# Altium schematic symbol library 1.4 - 继电器-变压器.SchLib: 40 symbols
Pins are listed as number, name and electrical type; pins without a type are passive.

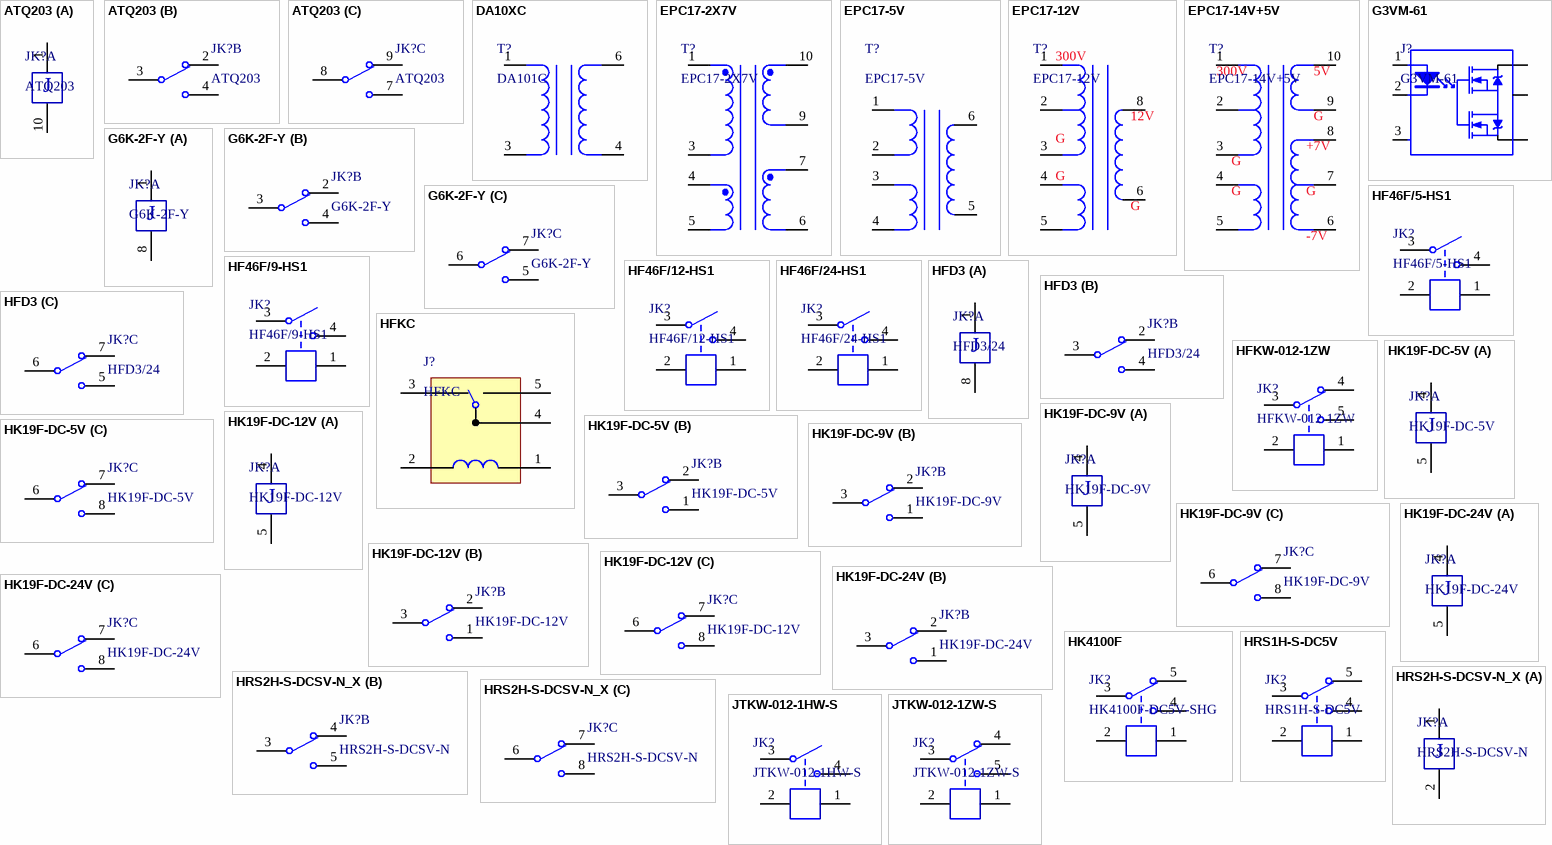
[diagram p0: symbols ATQ203 to JTKW-012-1ZW-S]

## ATQ203
designator JK?
12V两组转换; BOM名称: 12V两组继电器; 联系卖家 免费查找封装: 封装库来自淘宝卖家ID：黄晶宝石
footprint ATQ203 (双刀双投)
part A pins: 1, 10
part B pins: 2, 3, 4
part C pins: 7, 8, 9
part A text: J

## DA10XC
designator T?, comment DA101C
数字隔离变压器; 联系卖家 免费查找封装: 封装库来自淘宝卖家ID：黄晶宝石; BOM名称: 数字隔离变压器
footprint DA10XC (9mm*9.52mm*6.35mm(长*宽*高))
footprint DA10XMC (9mm*9.52mm*6.35mm(长*宽*高))
pins: 1, 3, 4, 6

## EPC17-2X7V
designator T?
2X7V 高频变压器; 联系卖家 免费查找封装: 封装库来自淘宝卖家ID：黄晶宝石; BOM名称: 2X7V 高频变压器
footprint EPC17-W-5+5 (磁芯17mm，高10mm，脚距3mm，)
pins: 1, 3, 4, 5, 6, 7, 9, 10

## EPC17-5V
designator T?
12V 高频变压器; 联系卖家 免费查找封装: 封装库来自淘宝卖家ID：黄晶宝石; BOM名称: 12V 高频变压器
footprint EPC17-10V 5+5 (磁芯17mm，高10mm，脚距3mm，)
pins: 1, 2, 3, 4, 5, 6

## EPC17-12V
designator T?
12V 高频变压器; 联系卖家 免费查找封装: 封装库来自淘宝卖家ID：黄晶宝石; BOM名称: 12V 高频变压器
footprint EPC17-10V 5+5 (磁芯17mm，高10mm，脚距3mm，)
pins: 1, 2, 3, 4, 5, 6, 8
text: 300V; 12V; G

## EPC17-14V+5V
designator T?
14V+5V 高频变压器; 联系卖家 免费查找封装: 封装库来自淘宝卖家ID：黄晶宝石; BOM名称: 14V+5V 高频变压器
footprint EPC17-W-5+5 (磁芯17mm，高10mm，脚距3mm，)
pins: 1, 2, 3, 4, 5, 6, 7, 8, 9, 10
text: 300V; 5V; G; +7V; -7V

## G3VM-61
designator J?
半导体继电器; 联系卖家 免费查找封装: 封装库来自淘宝卖家ID：黄晶宝石
footprint SOT254P-6 (继电器)
pins: 1 A "Anode", 2 K "Cathode", 3, 4, 5, 6

## G6K-2F-Y
designator JK?
两组转换-信号型; BOM名称: 两组信号继电器; 联系卖家 免费查找封装: 封装库来自淘宝卖家ID：黄晶宝石
footprint G6K-2F-Y (Footprint not found)
part A pins: 1, 8
part B pins: 2, 3, 4
part C pins: 5, 6, 7
part A text: J

## HF46F/5-HS1
designator JK?
5V一组常开; BOM名称: 5V继电器; 联系卖家 免费查找封装: 封装库来自淘宝卖家ID：黄晶宝石
footprint HF46-xx-HS1 (一组常开，长：20.5mm，宽：7mm，高：15.3mm)
pins: 1, 2, 3, 4

## HF46F/9-HS1
designator JK?
9V一组常开; BOM名称: 9V继电器; 联系卖家 免费查找封装: 封装库来自淘宝卖家ID：黄晶宝石
footprint HF46-xx-HS1 (一组常开，长：20.5mm，宽：7mm，高：15.3mm)
pins: 1, 2, 3, 4

## HF46F/12-HS1
designator JK?
12V一组常开; BOM名称: 12V继电器; 联系卖家 免费查找封装: 封装库来自淘宝卖家ID：黄晶宝石
footprint HF46-xx-HS1 (一组常开，长：20.5mm，宽：7mm，高：15.3mm)
pins: 1, 2, 3, 4

## HF46F/24-HS1
designator JK?
24V一组常开; BOM名称: 24V继电器; 联系卖家 免费查找封装: 封装库来自淘宝卖家ID：黄晶宝石
footprint HF46-xx-HS1 (一组常开，长：20.5mm，宽：7mm，高：15.3mm)
pins: 1, 2, 3, 4

## HFD3
designator JK?, comment HFD3/24
超小型两组转换; BOM名称: 两组转换继电器; 联系卖家 免费查找封装: 封装库来自淘宝卖家ID：黄晶宝石
footprint HFD3-DIP (超小型型号继电器（15mm*7.5mm*9mm))
footprint HFD3-SMD (超小型型号继电器（15mm*7.5mm*9mm))
part A pins: 1, 8
part B pins: 2, 3, 4
part C pins: 5, 6, 7
part A text: J

## HFKC
designator J?
单刀双掷继电器; 联系卖家 免费查找封装: 封装库来自淘宝卖家ID：黄晶宝石
footprint HFKC (继电器)
pins: 1, 2, 3, 4, 5

## HFKW-012-1ZW
designator JK?
12V一组转换; BOM名称: 12V继电器; 联系卖家 免费查找封装: 获取最新版本https://shop463601444.taobao.com
footprint 012-1ZW_W (单刀双投)
pins: 1, 2, 3, 4, 5

## HK19F-DC-5V
designator JK?
5V两组转换; BOM名称: 5V两组继电器; 联系卖家 免费查找封装: 获取最新版本https://shop463601444.taobao.com
footprint HK19F-DC (单刀双投，长：20.2mm，宽：10mm，高：12mm)
part A pins: 4, 5
part B pins: 1, 2, 3
part C pins: 6, 7, 8
part A text: J

## HK19F-DC-9V
designator JK?
9V两组转换; BOM名称: 9V两组继电器; 联系卖家 免费查找封装: 获取最新版本https://shop463601444.taobao.com
footprint HK19F-DC (单刀双投，长：20.2mm，宽：10mm，高：12mm)
part A pins: 4, 5
part B pins: 1, 2, 3
part C pins: 6, 7, 8
part A text: J

## HK19F-DC-12V
designator JK?
12V两组转换; BOM名称: 12V两组继电器; 联系卖家 免费查找封装: 获取最新版本https://shop463601444.taobao.com
footprint HK19F-DC (单刀双投，长：20.2mm，宽：10mm，高：12mm)
part A pins: 4, 5
part B pins: 1, 2, 3
part C pins: 6, 7, 8
part A text: J

## HK19F-DC-24V
designator JK?
24V两组转换; BOM名称: 24V两组继电器; 联系卖家 免费查找封装: 获取最新版本https://shop463601444.taobao.com
footprint HK19F-DC (单刀双投，长：20.2mm，宽：10mm，高：12mm)
part A pins: 4, 5
part B pins: 1, 2, 3
part C pins: 6, 7, 8
part A text: J

## HK4100F
designator JK?, comment HK4100F-DC5V-SHG
单刀双掷继电器; BOM名称: 一组继电器; 联系卖家 免费查找封装: 获取最新版本https://shop463601444.taobao.com
footprint HK4100F (单刀双投                     淘宝ID:黄晶宝石)
pins: 1, 2, 3, 4, 5

## HRS1H-S-DC5V
designator JK?
5V一组转换; BOM名称: 5V继电器; 联系卖家 免费查找封装: 获取最新版本https://shop463601444.taobao.com
footprint HRS1H (单刀双投)
pins: 1, 2, 3, 4, 5

## HRS2H-S-DCSV-N_X
designator JK?, comment HRS2H-S-DCSV-N
5V两组转换; BOM名称: 5V继电器; 联系卖家 免费查找封装: 获取最新版本https://shop463601444.taobao.com
footprint HRS2H (双刀双投)
part A pins: 1, 2
part B pins: 3, 4, 5
part C pins: 6, 7, 8
part A text: J

## JTKW-012-1HW-S
designator JK?
12V一组常开; BOM名称: 12V继电器; 联系卖家 免费查找封装: 获取最新版本https://shop463601444.taobao.com
footprint 012-1HW_BK (单刀单投/常开)
pins: 1, 2, 3, 4

## JTKW-012-1ZW-S
designator JK?
12V一组转换; BOM名称: 12V继电器; 联系卖家 免费查找封装: 获取最新版本https://shop463601444.taobao.com
footprint 012-1ZW_BK (单刀双投)
pins: 1, 2, 3, 4, 5

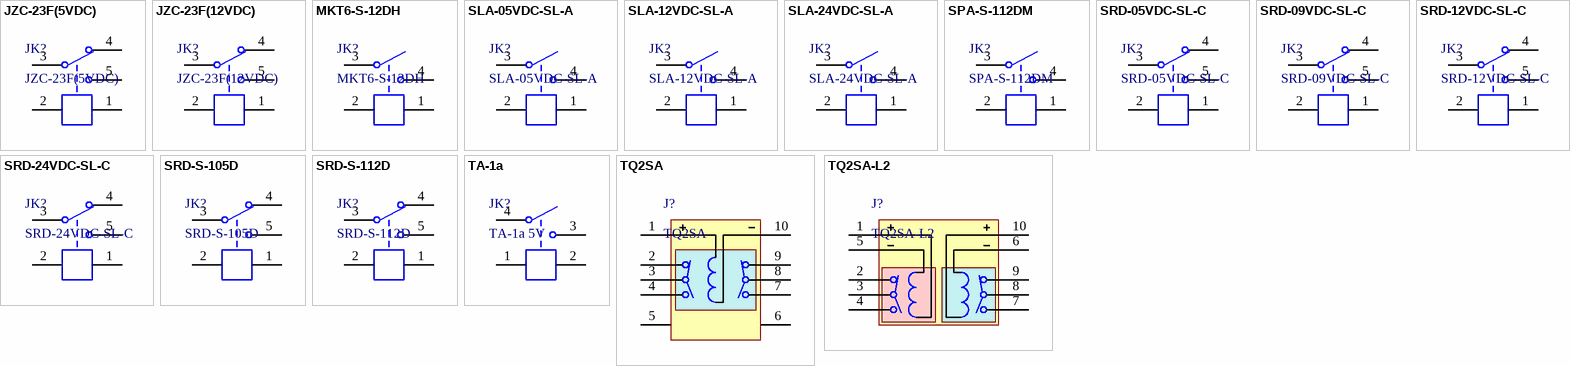
[diagram p1: symbols JZC-23F(5VDC) to TQ2SA-L2]

## JZC-23F(5VDC)
designator JK?
5V单路双控; BOM名称: 5V继电器; 联系卖家 免费查找封装: 获取最新版本https://shop463601444.taobao.com
footprint JZC-23F(4123) (双控继电器)
pins: 1, 2, 3, 4, 5

## JZC-23F(12VDC)
designator JK?
12V单路双控; BOM名称: 12V继电器; 联系卖家 免费查找封装: 获取最新版本https://shop463601444.taobao.com
footprint JZC-23F(4123) (双控继电器)
pins: 1, 2, 3, 4, 5

## MKT6-S-12DH
designator JK?
12V一组常开; BOM名称: 12V继电器; 联系卖家 免费查找封装: 获取最新版本https://shop463601444.taobao.com
footprint MKT6-S-12DH (单刀单投/常开)
pins: 1, 2, 3, 4

## SLA-05VDC-SL-A
designator JK?
5V一组常开; BOM名称: 5V继电器; 联系卖家 免费查找封装: 获取最新版本https://shop463601444.taobao.com
footprint SLA-xxVDC-SL-A (一组常开，长：32mm，宽：27.6mm，高：20mm)
pins: 1, 2, 3, 4

## SLA-12VDC-SL-A
designator JK?
12V一组常开; BOM名称: 12V继电器; 联系卖家 免费查找封装: 获取最新版本https://shop463601444.taobao.com
footprint SLA-xxVDC-SL-A (一组常开，长：32mm，宽：27.6mm，高：20mm)
pins: 1, 2, 3, 4

## SLA-24VDC-SL-A
designator JK?
24V一组常开; BOM名称: 24V继电器; 联系卖家 免费查找封装: 获取最新版本https://shop463601444.taobao.com
footprint SLA-xxVDC-SL-A (一组常开，长：32mm，宽：27.6mm，高：20mm)
pins: 1, 2, 3, 4

## SPA-S-112DM
designator JK?
12V一组常开; BOM名称: 12V继电器; 联系卖家 免费查找封装: 获取最新版本https://shop463601444.taobao.com
footprint SPA-S-112DM (单刀单投/常开)
pins: 1, 2, 3, 4

## SRD-05VDC-SL-C
designator JK?
5V一组转换; BOM名称: 5V继电器; 联系卖家 免费查找封装: 获取最新版本https://shop463601444.taobao.com
footprint SRD-C_B (单刀双投)
pins: 1, 2, 3, 4, 5

## SRD-09VDC-SL-C
designator JK?
9V一组转换; BOM名称: 9V继电器; 联系卖家 免费查找封装: 获取最新版本https://shop463601444.taobao.com
footprint SRD-C_B (单刀双投)
pins: 1, 2, 3, 4, 5

## SRD-12VDC-SL-C
designator JK?
12V一组转换; BOM名称: 12V继电器; 联系卖家 免费查找封装: 获取最新版本https://shop463601444.taobao.com
footprint SRD-C_B (单刀双投)
pins: 1, 2, 3, 4, 5

## SRD-24VDC-SL-C
designator JK?
24V一组转换; BOM名称: 24V继电器; 联系卖家 免费查找封装: 获取最新版本https://shop463601444.taobao.com
footprint SRD-C_B (单刀双投)
pins: 1, 2, 3, 4, 5

## SRD-S-105D
designator JK?
5V一组转换; BOM名称: 5V继电器; 联系卖家 免费查找封装: 封装库来自淘宝卖家ID：黄晶宝石
footprint SRD-C_BK (单刀双投)
pins: 1, 2, 3, 4, 5

## SRD-S-112D
designator JK?
12V一组转换; BOM名称: 12V继电器; 联系卖家 免费查找封装: 封装库来自淘宝卖家ID：黄晶宝石
footprint SRD-C_BK (单刀双投)
pins: 1, 2, 3, 4, 5

## TA-1a
designator JK?, comment TA-1a 5V
一组常开; BOM名称: 一组常开继电器; 联系卖家 免费查找封装: 封装库来自淘宝卖家ID：黄晶宝石
footprint TA-1a (微功耗超薄继电器21mm*5mm*12.5mm(长*宽*高))
pins: 1, 2, 3, 4

## TQ2SA
designator J?
单通道继电器; 联系卖家 免费查找封装: 封装库来自淘宝卖家ID：黄晶宝石
footprint SOP254P1150X560-10N (双继电器10PIN)
pins: 1, 2, 3, 4, 5, 6, 7, 8, 9, 10

## TQ2SA-L2
designator J?
双通道双稳态继电器; 联系卖家 免费查找封装: 封装库来自淘宝卖家ID：黄晶宝石
footprint SOP254P1150X560-10N (双继电器10PIN)
pins: 1, 2, 3, 4, 5, 6, 7, 8, 9, 10